# Altium integrated library nixie_tubes.IntLib: 2 symbols
Pins are listed as number, name and electrical type; pins without a type are passive.

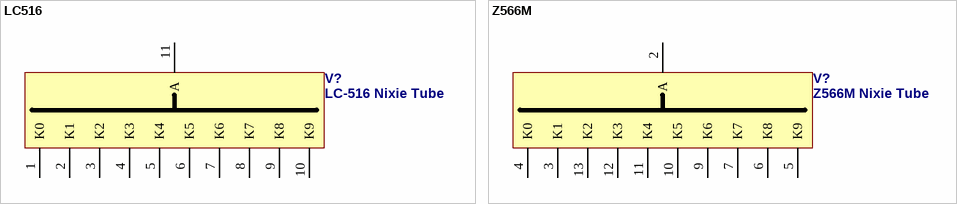
[diagram p0: symbols LC516 to Z566M]

## LC516
designator V?, comment LC-516 Nixie Tube
footprint LC516
pins: 1 K0, 2 K1, 3 K2, 4 K3, 5 K4, 6 K5, 7 K6, 8 K7, 9 K8, 10 K9, 11 A

## Z566M
designator V?, comment Z566M Nixie Tube
footprint Z566M
pins: 2 A, 3 K1, 4 K0, 5 K9, 6 K8, 7 K7, 9 K6, 10 K5, 11 K4, 12 K3, 13 K2